# EAGLE library part FX*A108 (library ic-Fairchild)
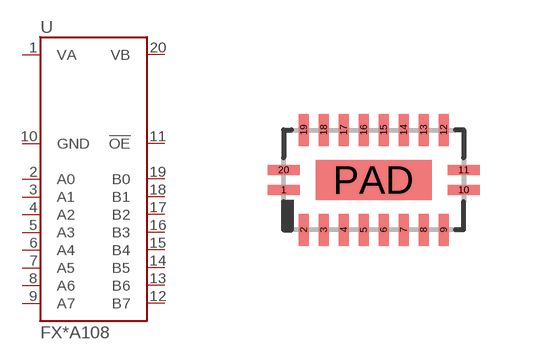
[diagram p1: symbol with the pads of QFN20-4.5X2.5; footprint QFN20-4.5X2.5]

Designator prefix U

## FXLA108, FXMA108  [QFN20-4.5X2.5]
1  VA
2  A0
3  A1
4  A2
5  A3
6  A4
7  A5
8  A6
9  A7
10  GND
11  !OE
12  B7
13  B6
14  B5
15  B4
16  B3
17  B2
18  B1
19  B0
20  VB

## Footprint QFN20-4.5X2.5 (pad centres in mm)
smd 0.8 x 0.25: 1 -2.25,-0.25; 10 2.25,-0.25; 11 2.25,0.25; 20 -2.25,0.25
smd 0.25 x 0.8: 2 -1.75,-1.25; 3 -1.25,-1.25; 4 -0.75,-1.25; 5 -0.25,-1.25; 6 0.25,-1.25; 7 0.75,-1.25; 8 1.25,-1.25; 9 1.75,-1.25; 12 1.75,1.25; 13 1.25,1.25; 14 0.75,1.25; 15 0.25,1.25; 16 -0.25,1.25; 17 -0.75,1.25; 18 -1.25,1.25; 19 -1.75,1.25
smd 2.9 x 1: PAD 0,0